# EAGLE library part 61303425721 (library Wurth_Elektronik_Electromechanic_Board_to_Board_Connectors_rev16a)
WR-PHD 2.54mm Dual Socket Header Bottom Entry, 34 Pins =>Code : Con_BTB_SHD_2.54_2_61303425721 <http://katalog.we-online.de/media/images/eican/Con_BTB_SHD_2.54_2_6130xx25721_pf2.jpg> Details see: http://katalog.we-online.de/en/em/613_0xx_257_21 Created 2014-05-30, Karrer Zheng 2014 (C) Würth Elektronik
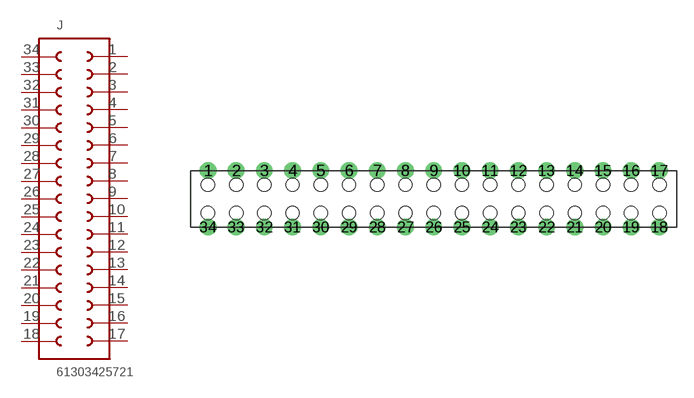
[diagram p166: symbol with the pads of 61303425721; footprint 61303425721]

Designator prefix J

## 61303425721  [61303425721]
1  1  pas
2  2  pas
3  3  pas
4  4  pas
5  5  pas
6  6  pas
7  7  pas
8  8  pas
9  9  pas
10  10  pas
11  11  pas
12  12  pas
13  13  pas
14  14  pas
15  15  pas
16  16  pas
17  17  pas
18  18  pas
19  19  pas
20  20  pas
21  21  pas
22  22  pas
23  23  pas
24  24  pas
25  25  pas
26  26  pas
27  27  pas
28  28  pas
29  29  pas
30  30  pas
31  31  pas
32  32  pas
33  33  pas
34  34  pas

## Footprint 61303425721 (pad centres in mm)
WR-PHD 2.54mm Dual Socket Header Bottom Entry, 34 Pins
drill 1: 1 -22.86,3.81; 2 -20.32,3.81; 3 -17.78,3.81; 4 -15.24,3.81; 5 -12.7,3.81; 6 -10.16,3.81; 7 -7.62,3.81; 8 -5.08,3.81; 9 -2.54,3.81; 10 0,3.81; 11 2.54,3.81; 12 5.08,3.81; 13 7.62,3.81; 14 10.16,3.81; 15 12.7,3.81; 16 15.24,3.81; 17 17.78,3.81; 18 17.78,-1.27; 19 15.24,-1.27; 20 12.7,-1.27; 21 10.16,-1.27; 22 7.62,-1.27; 23 5.08,-1.27; 24 2.54,-1.27; 25 0,-1.27; 26 -2.54,-1.27; 27 -5.08,-1.27; 28 -7.62,-1.27; 29 -10.16,-1.27; 30 -12.7,-1.27; 31 -15.24,-1.27; 32 -17.78,-1.27; 33 -20.32,-1.27; 34 -22.86,-1.27
hole 1.2 at -22.86,2.54
hole 1.2 at -20.32,2.54
hole 1.2 at -17.78,2.54
hole 1.2 at -15.24,2.54
hole 1.2 at -12.7,2.54
hole 1.2 at -10.16,2.54
hole 1.2 at -7.62,2.54
hole 1.2 at -5.08,2.54
hole 1.2 at -2.54,2.54
hole 1.2 at 0,2.54
hole 1.2 at 2.54,2.54
hole 1.2 at 5.08,2.54
hole 1.2 at 7.62,2.54
hole 1.2 at -22.86,0
hole 1.2 at -20.32,0
hole 1.2 at -17.78,0
hole 1.2 at -15.24,0
hole 1.2 at -12.7,0
hole 1.2 at -10.16,0
hole 1.2 at -7.62,0
hole 1.2 at -5.08,0
hole 1.2 at -2.54,0
hole 1.2 at 0,0
hole 1.2 at 2.54,0
hole 1.2 at 5.08,0
hole 1.2 at 7.62,0
hole 1.2 at 10.16,2.54
hole 1.2 at 12.7,2.54
hole 1.2 at 10.16,0
hole 1.2 at 12.7,0
hole 1.2 at 15.24,2.54
hole 1.2 at 15.24,0
hole 1.2 at 17.78,2.54
hole 1.2 at 17.78,0